# Altium schematic symbol library ADG3304.SchLib: 1 symbol
Pins are listed as number, name and electrical type; pins without a type are passive.

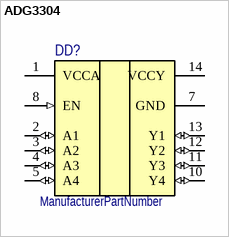
[diagram p0: symbol ADG3304]

## ADG3304
designator DD?  (value not drawn)
ManufacturerPartNumber: ManufacturerPartNumber
pins: 1 VCCA (power), 2 A1 (io), 3 A2 (io), 4 A3 (io), 5 A4 (io), 7 GND (power), 8 EN (in), 10 Y4 (io), 11 Y3 (io), 12 Y2 (io), 13 Y1 (io), 14 VCCY (power)